# Altium integrated library NSC Switcher.IntLib: 916 symbols (part 14 of 23)
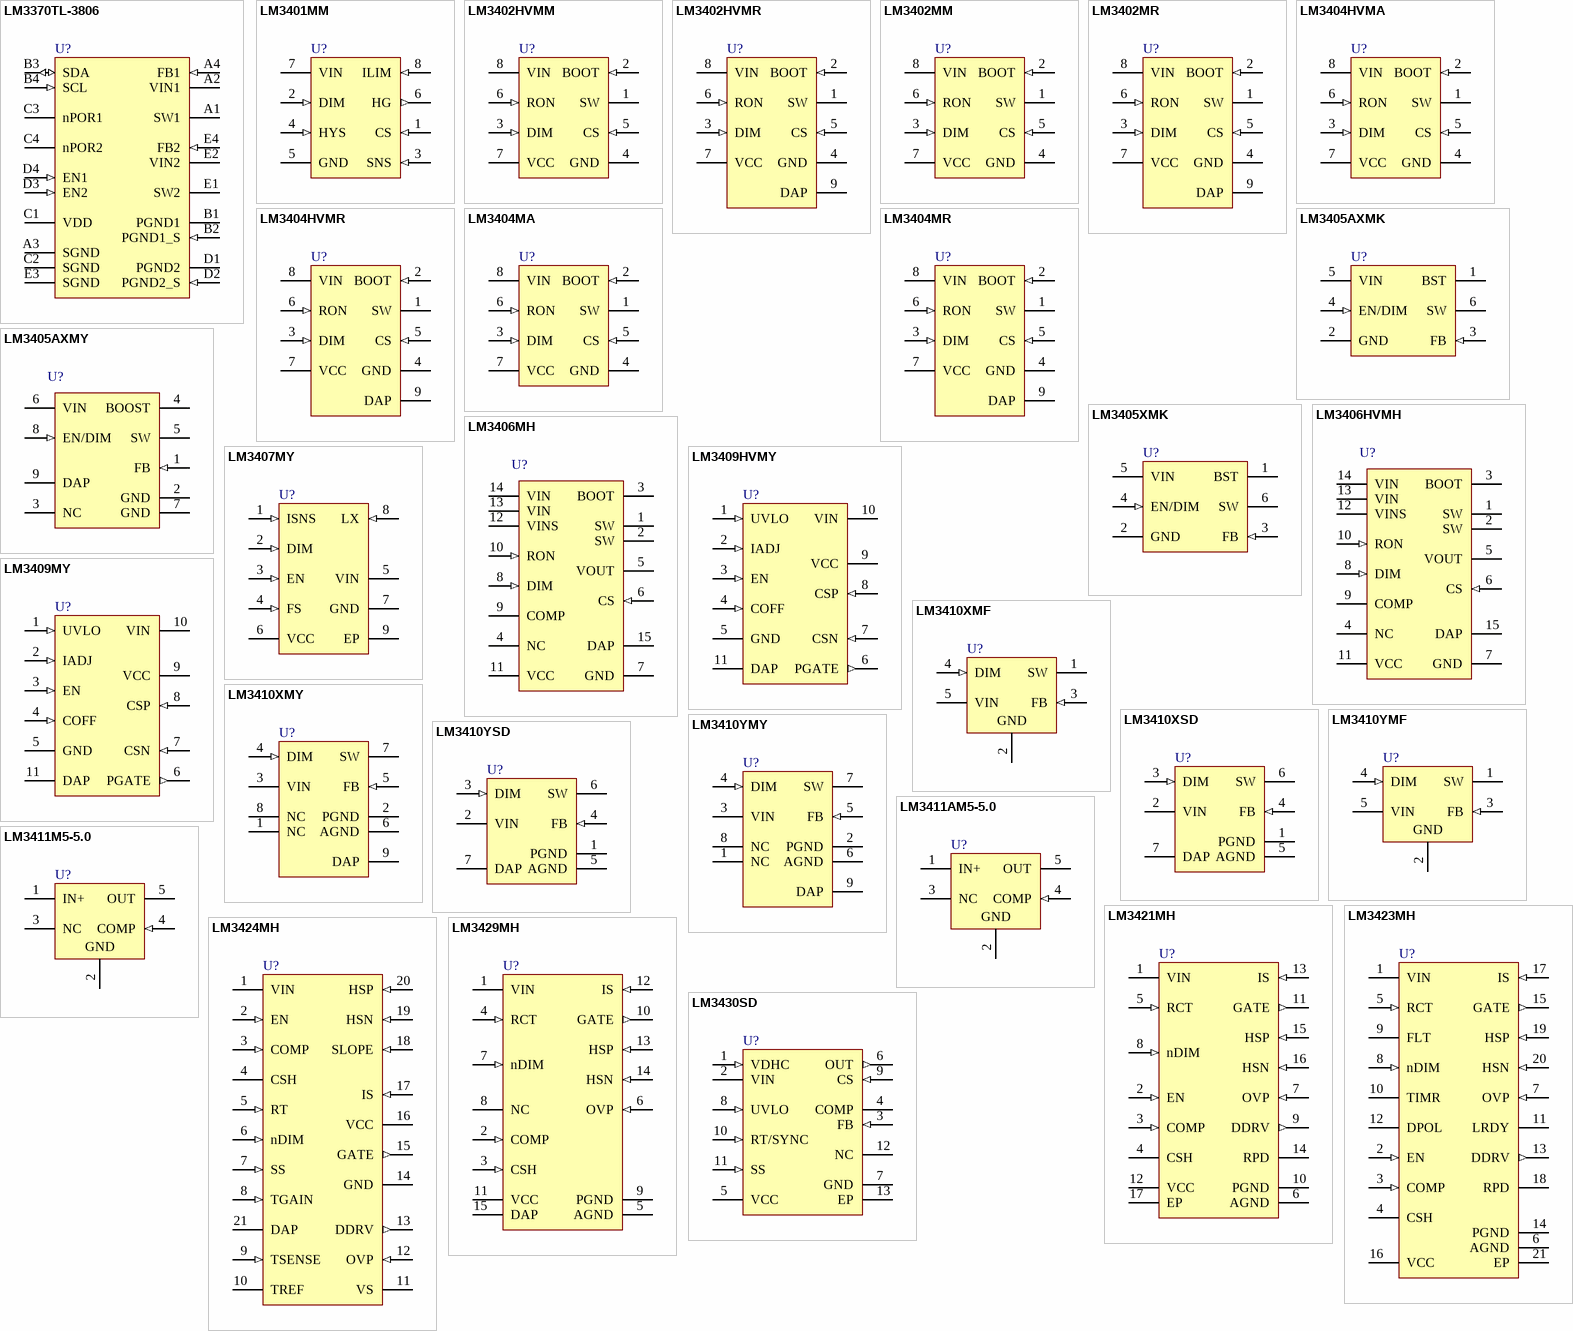
[diagram p41: symbols LM3370TL-3806 to LM3430SD]

## LM3410XMY
designator U?
PowerWise 525kHz/1.6MHz, Constant Current Boost and SEPIC LED Driver with Internal Compensation; PartNumber: LM3410XMY; Manufacturer: National Semiconductor; CompType: Switcher; PackageTopMarking: ZXTT*SSXB; Published: 4-Dec-2008; DatasheetVersion: Apr-2008; PackageVersion: revA, Nov-2003; PackageReference: MUY08A; Publisher: Altium Limited; PackageDescription: Molded Mini-SO, Exposed Pad, .118 x .118 x .034in Body, 8 Lead, .0256in Pitch; RoHS: Y; PinCount: 8; DigiKeyPartNumber: LM3410XMY-ND; Code_JEDEC: MO-187-AA; ComponentLink1Description: LM3410 Datasheet; ComponentLink1URL: http://www.national.com/ds/LM/LM3410.pdf; ComponentLink2Description: LM3410 Web Page; ComponentLink2URL: http://www.national.com/pf/LM/LM3410.html; ComponentLink3Description: MUY08A Package Drawing; ComponentLink3URL: http://www.national.com/packaging/folders/muy08a.html
footprint MUY08A_N (TSOP, 8-Leads, Body 3x3mm, Pitch 0.65mm, Exposed Pad, IPC Medium Density)
footprint MUY08A_L (TSOP, 8-Leads, Body 3x3mm, Pitch 0.65mm, Exposed Pad, IPC High Density)
footprint MUY08A_M (TSOP, 8-Leads, Body 3x3mm, Pitch 0.65mm, Exposed Pad, IPC Low Density)
pins: 1 NC, 2 PGND (power), 3 VIN (power), 4 DIM (in), 5 FB (in), 6 AGND (power), 7 SW (power), 8 NC, 9 DAP (power)

## LM3410XSD
designator U?
PowerWise 525kHz/1.6MHz, Constant Current Boost and SEPIC LED Driver with Internal Compensation; PartNumber: LM3410XSD; Manufacturer: National Semiconductor; CompType: Switcher; PackageTopMarking: ZXYTT*3410X; Published: 4-Dec-2008; DatasheetVersion: Apr-2008; PackageVersion: revA, Jul-2003; PackageReference: SDE06A; Publisher: Altium Limited; PackageDescription: LLP, Plastic, Dual, 3 x 3 x 0.8mm Body, 6 Lead, 0.95mm Pitch, No Pullback; RoHS: Y; PinCount: 6; DigiKeyPartNumber: LM3410XSDCT-ND; ComponentLink1Description: LM3410 Datasheet; ComponentLink1URL: http://www.national.com/ds/LM/LM3410.pdf; ComponentLink2Description: LM3410 Web Page; ComponentLink2URL: http://www.national.com/pf/LM/LM3410.html; ComponentLink3Description: SDE06A Package Drawing; ComponentLink3URL: http://www.national.com/packaging/folders/sde06a.html
footprint SDE06A_full (SON, 6-Leads, Body 3x3 mm, Pitch 0.95mm, Full Paste, NSC Recommended)
footprint SDE06A_quad (SON, 6-Leads, Body 3x3 mm, Pitch 0.95mm, Quad Paste, NSC Recommended)
pins: 1 PGND (power), 2 VIN (power), 3 DIM (in), 4 FB (in), 5 AGND (power), 6 SW (power), 7 DAP (power)

## LM3410YMF
designator U?
PowerWise 525kHz/1.6MHz, Constant Current Boost and SEPIC LED Driver with Internal Compensation; PartNumber: LM3410YMF; Manufacturer: National Semiconductor; CompType: Switcher; PackageTopMarking: SSZB*XTT; Published: 4-Dec-2008; DatasheetVersion: Apr-2008; PackageVersion: revD, Aug-2008; PackageReference: MF05A; Publisher: Altium Limited; PackageDescription: Molded SOT-23, .115 x .063 x .040 in Body, 5 Lead, .0375 in Pitch; RoHS: Y; PinCount: 5; DigiKeyPartNumber: LM3410YMFCT-ND; ComponentLink1Description: LM3410 Datasheet; ComponentLink1URL: http://www.national.com/ds/LM/LM3410.pdf; ComponentLink2Description: LM3410 Web Page; ComponentLink2URL: http://www.national.com/pf/LM/LM3410.html; ComponentLink3Description: MF05A Package Drawing; ComponentLink3URL: http://www.national.com/packaging/folders/mf05a.html
footprint MF05A_N (SOT23, 5-Leads, Body 2.9x1.6mm, Pitch 0.95mm, Lead Span 2.8mm, IPC Medium Density)
footprint MF05A_L (SOT23, 5-Leads, Body 2.9x1.6mm, Pitch 0.95mm, Lead Span 2.8mm, IPC High Density)
footprint MF05A_M (SOT23, 5-Leads, Body 2.9x1.6mm, Pitch 0.95mm, Lead Span 2.8mm, IPC Low Density)
pins: 1 SW (power), 2 GND (power), 3 FB (in), 4 DIM (in), 5 VIN (power)

## LM3410YMY
designator U?
PowerWise 525kHz/1.6MHz, Constant Current Boost and SEPIC LED Driver with Internal Compensation; PartNumber: LM3410YMY; Manufacturer: National Semiconductor; CompType: Switcher; PackageTopMarking: ZXTT*STAB; Published: 4-Dec-2008; DatasheetVersion: Apr-2008; PackageVersion: revA, Nov-2003; PackageReference: MUY08A; Publisher: Altium Limited; PackageDescription: Molded Mini-SO, Exposed Pad, .118 x .118 x .034in Body, 8 Lead, .0256in Pitch; RoHS: Y; PinCount: 8; DigiKeyPartNumber: LM3410YMY-ND; Code_JEDEC: MO-187-AA; ComponentLink1Description: LM3410 Datasheet; ComponentLink1URL: http://www.national.com/ds/LM/LM3410.pdf; ComponentLink2Description: LM3410 Web Page; ComponentLink2URL: http://www.national.com/pf/LM/LM3410.html; ComponentLink3Description: MUY08A Package Drawing; ComponentLink3URL: http://www.national.com/packaging/folders/muy08a.html
footprint MUY08A_N (TSOP, 8-Leads, Body 3x3mm, Pitch 0.65mm, Exposed Pad, IPC Medium Density)
footprint MUY08A_L (TSOP, 8-Leads, Body 3x3mm, Pitch 0.65mm, Exposed Pad, IPC High Density)
footprint MUY08A_M (TSOP, 8-Leads, Body 3x3mm, Pitch 0.65mm, Exposed Pad, IPC Low Density)
pins: 1 NC, 2 PGND (power), 3 VIN (power), 4 DIM (in), 5 FB (in), 6 AGND (power), 7 SW (power), 8 NC, 9 DAP (power)

## LM3410YSD
designator U?
PowerWise 525kHz/1.6MHz, Constant Current Boost and SEPIC LED Driver with Internal Compensation; PartNumber: LM3410YSD; Manufacturer: National Semiconductor; CompType: Switcher; PackageTopMarking: ZXYTT*3410Y; Published: 4-Dec-2008; DatasheetVersion: Apr-2008; PackageVersion: revA, Jul-2003; PackageReference: SDE06A; Publisher: Altium Limited; PackageDescription: LLP, Plastic, Dual, 3 x 3 x 0.8mm Body, 6 Lead, 0.95mm Pitch, No Pullback; RoHS: Y; PinCount: 6; DigiKeyPartNumber: LM3410YSDCT-ND; ComponentLink1Description: LM3410 Datasheet; ComponentLink1URL: http://www.national.com/ds/LM/LM3410.pdf; ComponentLink2Description: LM3410 Web Page; ComponentLink2URL: http://www.national.com/pf/LM/LM3410.html; ComponentLink3Description: SDE06A Package Drawing; ComponentLink3URL: http://www.national.com/packaging/folders/sde06a.html
footprint SDE06A_full (SON, 6-Leads, Body 3x3 mm, Pitch 0.95mm, Full Paste, NSC Recommended)
footprint SDE06A_quad (SON, 6-Leads, Body 3x3 mm, Pitch 0.95mm, Quad Paste, NSC Recommended)
pins: 1 PGND (power), 2 VIN (power), 3 DIM (in), 4 FB (in), 5 AGND (power), 6 SW (power), 7 DAP (power)

## LM3411AM5-5.0
designator U?
Precision Secondary Regulator/Driver; PartNumber: LM3411AM5-5.0; Manufacturer: National Semiconductor; CompType: Switcher; PackageTopMarking: D01A*XTT; Published: 4-Dec-2008; DatasheetVersion: Mar-2005; PackageVersion: revD, Aug-2008; PackageReference: MF05A; Publisher: Altium Limited; PackageDescription: Molded SOT-23, .115 x .063 x .040 in Body, 5 Lead, .0375 in Pitch; RoHS: O; PinCount: 5; DigiKeyPartNumber: LM3411AM5-5.0CT-ND; ComponentLink1Description: LM3411 Datasheet; ComponentLink1URL: http://www.national.com/ds/LM/LM3411.pdf; ComponentLink2Description: LM3411 Web Page; ComponentLink2URL: http://www.national.com/pf/LM/LM3411.html; ComponentLink3Description: MF05A Package Drawing; ComponentLink3URL: http://www.national.com/packaging/folders/mf05a.html
footprint MF05A_N (SOT23, 5-Leads, Body 2.9x1.6mm, Pitch 0.95mm, Lead Span 2.8mm, IPC Medium Density)
footprint MF05A_L (SOT23, 5-Leads, Body 2.9x1.6mm, Pitch 0.95mm, Lead Span 2.8mm, IPC High Density)
footprint MF05A_M (SOT23, 5-Leads, Body 2.9x1.6mm, Pitch 0.95mm, Lead Span 2.8mm, IPC Low Density)
pins: 1 IN+ (power), 2 GND (power), 3 NC, 4 COMP (in), 5 OUT (power)

## LM3411M5-5.0
designator U?
Precision Secondary Regulator/Driver; PartNumber: LM3411M5-5.0; Manufacturer: National Semiconductor; CompType: Switcher; PackageTopMarking: D01B*XTT; Published: 4-Dec-2008; DatasheetVersion: Mar-2005; PackageVersion: revD, Aug-2008; PackageReference: MF05A; Publisher: Altium Limited; PackageDescription: Molded SOT-23, .115 x .063 x .040 in Body, 5 Lead, .0375 in Pitch; RoHS: O; PinCount: 5; DigiKeyPartNumber: LM3411M5-5.0CT-ND; ComponentLink1Description: LM3411 Datasheet; ComponentLink1URL: http://www.national.com/ds/LM/LM3411.pdf; ComponentLink2Description: LM3411 Web Page; ComponentLink2URL: http://www.national.com/pf/LM/LM3411.html; ComponentLink3Description: MF05A Package Drawing; ComponentLink3URL: http://www.national.com/packaging/folders/mf05a.html
footprint MF05A_N (SOT23, 5-Leads, Body 2.9x1.6mm, Pitch 0.95mm, Lead Span 2.8mm, IPC Medium Density)
footprint MF05A_L (SOT23, 5-Leads, Body 2.9x1.6mm, Pitch 0.95mm, Lead Span 2.8mm, IPC High Density)
footprint MF05A_M (SOT23, 5-Leads, Body 2.9x1.6mm, Pitch 0.95mm, Lead Span 2.8mm, IPC Low Density)
pins: 1 IN+ (power), 2 GND (power), 3 NC, 4 COMP (in), 5 OUT (power)

## LM3421MH
designator U?
N-Channel Controllers for Constant Current LED Drivers; PartNumber: LM3421MH; Manufacturer: National Semiconductor; CompType: Switcher; PackageTopMarking: NSUZXYTT*LM3421*MH; Published: 4-Dec-2008; DatasheetVersion: Jul-2008; PackageVersion: revA, Apr-2003; PackageReference: MXA16A; Publisher: Altium Limited; PackageDescription: Molded TSSOP, Jedec, Exposed Pad, 5.0 x 4.4 x 0.9mm Body,16 Lead, 0.65mm Pitch; RoHS: Y; PinCount: 16; DigiKeyPartNumber: LM3421MH-ND; Code_JEDEC: MO-153-ABT; ComponentLink1Description: LM3421 Datasheet; ComponentLink1URL: http://www.national.com/ds/LM/LM3421.pdf; ComponentLink2Description: LM3421 Web Page; ComponentLink2URL: http://www.national.com/pf/LM/LM3421.html; ComponentLink3Description: MXA16A Package Drawing; ComponentLink3URL: http://www.national.com/packaging/folders/mxa16a.html
footprint MXA16A_N (TSOP, 16-Leads, Body 5x4.4mm, Pitch 0.65mm, Exposed Pad, IPC Medium Density)
footprint MXA16A_L (TSOP, 16-Leads, Body 5x4.4mm, Pitch 0.65mm, Exposed Pad, IPC High Density)
footprint MXA16A_M (TSOP, 16-Leads, Body 5x4.4mm, Pitch 0.65mm, Exposed Pad, IPC Low Density)
pins: 1 VIN (power), 2 EN (in), 3 COMP (in), 4 CSH, 5 RCT (in), 6 AGND (power), 7 OVP (in), 8 nDIM (in), 9 DDRV (out), 10 PGND (power), 11 GATE (out), 12 VCC (power), 13 IS (in), 14 RPD (oc), 15 HSP (in), 16 HSN (in), 17 EP (power)

## LM3423MH
designator U?
N-Channel Controllers for Constant Current LED Drivers; PartNumber: LM3423MH; Manufacturer: National Semiconductor; CompType: Switcher; PackageTopMarking: NSUZXYTT*LM3423*MH; Published: 4-Dec-2008; DatasheetVersion: Jul-2008; PackageVersion: revC, Jul-2006; PackageReference: MXA20A; Publisher: Altium Limited; PackageDescription: Molded TSSOP, Jedec, 6.5 x 4.4 x 0.9mm Body, 20 Lead, 0.65mm Pitch, Exposed Pad; RoHS: Y; PinCount: 20; DigiKeyPartNumber: LM3423MH-ND; Code_JEDEC: MO-153-ACT; ComponentLink1Description: LM3423 Datasheet; ComponentLink1URL: http://www.national.com/ds/LM/LM3423.pdf; ComponentLink2Description: LM3423 Web Page; ComponentLink2URL: http://www.national.com/pf/LM/LM3423.html; ComponentLink3Description: MXA20A Package Drawing; ComponentLink3URL: http://www.national.com/packaging/folders/mxa20a.html
footprint MXA20A_N (TSOP, 20-Leads, Body 6.5x4.4mm, Pitch 0.65mm, Exposed Pad, IPC Medium Density)
footprint MXA20A_L (TSOP, 20-Leads, Body 6.5x4.4mm, Pitch 0.65mm, Exposed Pad, IPC High Density)
footprint MXA20A_M (TSOP, 20-Leads, Body 6.5x4.4mm, Pitch 0.65mm, Exposed Pad, IPC Low Density)
pins: 1 VIN (power), 2 EN (in), 3 COMP (in), 4 CSH, 5 RCT (in), 6 AGND (power), 7 OVP (in), 8 nDIM (in), 9 FLT (oc), 10 TIMR, 11 LRDY (oc), 12 DPOL, 13 DDRV (out), 14 PGND (power), 15 GATE (out), 16 VCC (power), 17 IS (in), 18 RPD (oc), 19 HSP (in), 20 HSN (in), 21 EP (power)

## LM3424MH
designator U?
Constant Current N-Channel Controller with Thermal Foldback for Driving LEDs; PartNumber: LM3424MH; Manufacturer: National Semiconductor; CompType: Switcher; PackageTopMarking: NSUZXYTT*LM3424*MH; PowerWise: Y; Published: 9-Oct-2009; DatasheetVersion: Aug-2009; PackageVersion: revC, Jul-2006; PackageReference: MXA20A; Publisher: Altium Limited; PackageDescription: Molded TSSOP, Jedec, 6.5 x 4.4 x 0.9mm Body, 20 Lead, 0.65mm Pitch, Exposed Pad; RoHS: Y; PinCount: 20; DigiKeyPartNumber: LM3424MH-ND; Code_JEDEC: MO-153-ACT; ComponentLink1Description: LM3424 Datasheet; ComponentLink1URL: http://www.national.com/ds/LM/LM3424.pdf; ComponentLink2Description: LM3424 Web Page; ComponentLink2URL: http://www.national.com/pf/LM/LM3424.html; ComponentLink3Description: MXA20A Package Page; ComponentLink3URL: http://www.national.com/packaging/folders/mxa20a.html
footprint MXA20A_N (TSOP, 20-Leads, Body 6.5x4.4mm, Pitch 0.65mm, Exposed Pad, IPC Medium Density)
footprint MXA20A_L (TSOP, 20-Leads, Body 6.5x4.4mm, Pitch 0.65mm, Exposed Pad, IPC High Density)
footprint MXA20A_M (TSOP, 20-Leads, Body 6.5x4.4mm, Pitch 0.65mm, Exposed Pad, IPC Low Density)
pins: 1 VIN (power), 2 EN (in), 3 COMP (in), 4 CSH, 5 RT (in), 6 nDIM (in), 7 SS (in), 8 TGAIN (in), 9 TSENSE (in), 10 TREF, 11 VS (power), 12 OVP (in), 13 DDRV (out), 14 GND (power), 15 GATE (out), 16 VCC (power), 17 IS (in), 18 SLOPE (in), 19 HSN (in), 20 HSP (in), 21 DAP (power)

## LM3429MH
designator U?
N-Channel Controller for Constant Current LED Drivers; PartNumber: LM3429MH; Manufacturer: National Semiconductor; CompType: Switcher; PackageTopMarking: NSUZXYTT*LM3429*MH; PowerWise: Y; Published: 9-Oct-2009; DatasheetVersion: Aug-2009; PackageVersion: revA, Feb-2003; PackageReference: MXA14A; Publisher: Altium Limited; PackageDescription: Molded TSSOP, JEDEC, Exposed Pad, 5.0 x 4.4 x 0.9mm Body, 14 Lead, 0.65mm Pitch; RoHS: Y; PinCount: 14; DigiKeyPartNumber: LM3429MH-ND; Code_JEDEC: MO-153-ABT-1; ComponentLink1Description: LM3429 Datasheet; ComponentLink1URL: http://www.national.com/ds/LM/LM3429.pdf; ComponentLink2Description: LM3429 Web Page; ComponentLink2URL: http://www.national.com/pf/LM/LM3429.html; ComponentLink3Description: MXA14A Package Page; ComponentLink3URL: http://www.national.com/packaging/folders/mxa14a.html
footprint MXA14A_N (TSOP, 14-Leads, Body 5x4.4mm, Pitch 0.65mm, Exposed Pad, IPC Medium Density)
footprint MXA14A_L (TSOP, 14-Leads, Body 5x4.4mm, Pitch 0.65mm, Exposed Pad, IPC High Density)
footprint MXA14A_M (TSOP, 14-Leads, Body 5x4.4mm, Pitch 0.65mm, Exposed Pad, IPC Low Density)
pins: 1 VIN (power), 2 COMP (in), 3 CSH (in), 4 RCT (in), 5 AGND (power), 6 OVP (in), 7 nDIM (in), 8 NC, 9 PGND (power), 10 GATE (out), 11 VCC (power), 12 IS (in), 13 HSP (in), 14 HSN (in), 15 DAP (power)

## LM3430SD
designator U?
Boost Controller for LED Backlighting; PartNumber: LM3430SD; Manufacturer: National Semiconductor; CompType: Switcher; PackageTopMarking: ZXYTT*L3430; Published: 4-Dec-2008; DatasheetVersion: Jan-2007; PackageVersion: revB, Jul-2008; PackageReference: SDF12A; Publisher: Altium Limited; PackageDescription: LLP, Plastic, Dual, 3 x 3 x 0.8mm Body, 12 Lead, 0.4mm Pitch, No Pullback; RoHS: O; PinCount: 12; DigiKeyPartNumber: LM3430SDCT-ND; ComponentLink1Description: LM3430 Datasheet; ComponentLink1URL: http://www.national.com/ds/LM/LM3430.pdf; ComponentLink2Description: LM3430 Web Page; ComponentLink2URL: http://www.national.com/pf/LM/LM3430.html; ComponentLink3Description: SDF12A Package Drawing; ComponentLink3URL: http://www.national.com/packaging/folders/sdf12a.html
footprint SDF12A (SON, 12-Leads, Body 3x3mm, Pitch 0.4mm, NSC Recommended)
pins: 1 VDHC (in), 2 VIN (power), 3 FB (in), 4 COMP, 5 VCC (power), 6 OUT (out), 7 GND (power), 8 UVLO (in), 9 CS (in), 10 RT/SYNC (in), 11 SS (in), 12 NC, 13 EP (power)

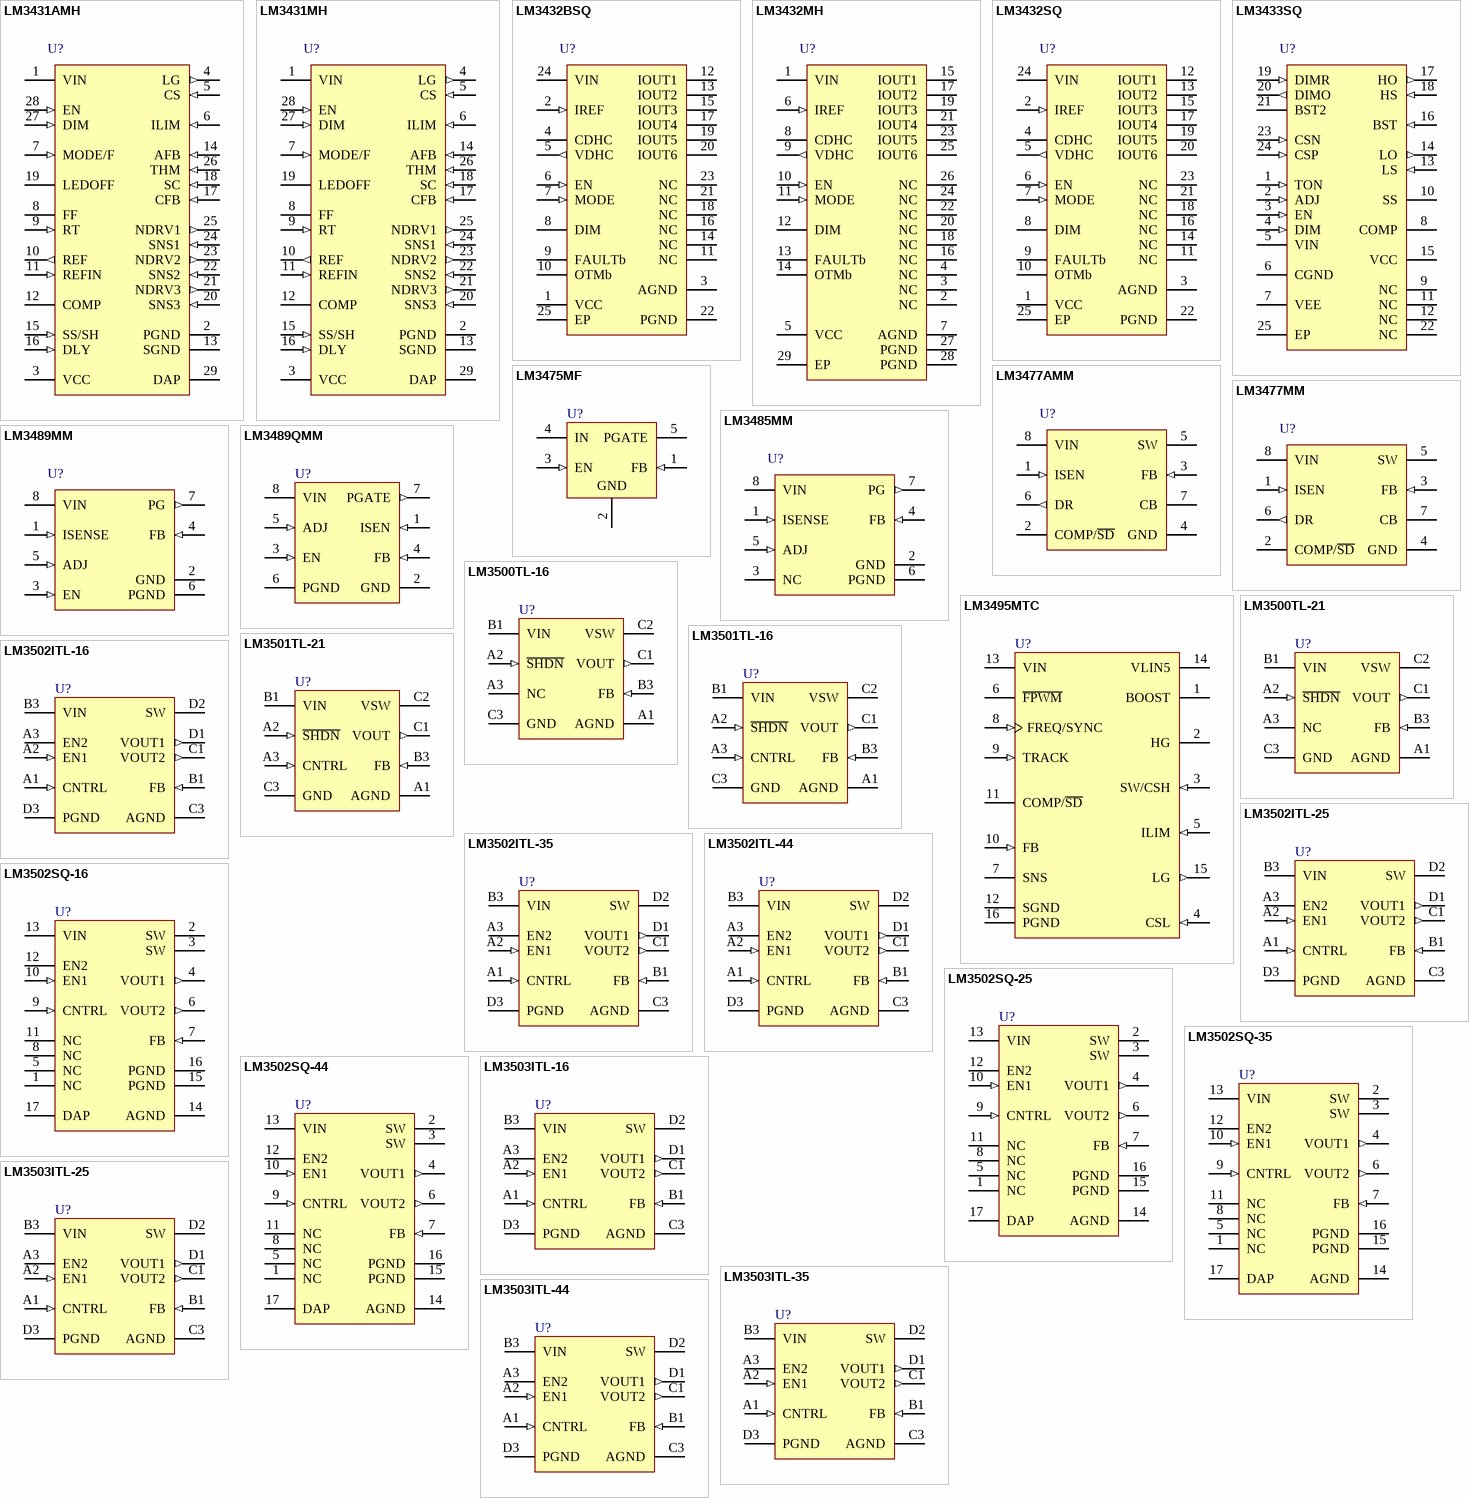
[diagram p16: symbols LM3431AMH to LM3503ITL-44]

## LM3431AMH
designator U?
3-Channel Constant Current LED Driver with Integrated Boost Controller; PartNumber: LM3431AMH; Manufacturer: National Semiconductor; CompType: Switcher; PackageTopMarking: NSUZXYTT*LM3431AMH; Published: 4-Dec-2008; DatasheetVersion: Jan-2008; PackageVersion: revD, Oct-2003; PackageReference: MXA28A; Publisher: Altium Limited; PackageDescription: Molded TSSOP, Jedec, 9.7 x 4.4 x 0.9mm Body, 28 Lead, 0.65mm Pitch, Exposed Pad; RoHS: Y; PinCount: 28; DigiKeyPartNumber: LM3431AMH-ND; Code_JEDEC: MO-153-AET; ComponentLink1Description: LM3431 Datasheet; ComponentLink1URL: http://www.national.com/ds/LM/LM3431.pdf; ComponentLink2Description: LM3431 Web Page; ComponentLink2URL: http://www.national.com/pf/LM/LM3431.html; ComponentLink3Description: MXA28A Package Drawing; ComponentLink3URL: http://www.national.com/packaging/folders/mxa28a.html
footprint MXA28A_N (TSOP, 28-Leads, Body 9.7x4.4mm, Pitch 0.65mm, Exposed Pad, IPC Medium Density)
footprint MXA28A_L (TSOP, 28-Leads, Body 9.7x4.4mm, Pitch 0.65mm, Exposed Pad, IPC High Density)
footprint MXA28A_M (TSOP, 28-Leads, Body 9.7x4.4mm, Pitch 0.65mm, Exposed Pad, IPC Low Density)
pins: 1 VIN (power), 2 PGND (power), 3 VCC (power), 4 LG (out), 5 CS (in), 6 ILIM (in), 7 MODE/F (in), 8 FF, 9 RT (in), 10 REF (out), 11 REFIN (in), 12 COMP, 13 SGND (power), 14 AFB (in), 15 SS/SH (in), 16 DLY (in), 17 CFB (in), 18 SC (in), 19 LEDOFF, 20 SNS3 (in), 21 NDRV3 (out), 22 SNS2 (in), 23 NDRV2 (out), 24 SNS1 (in), 25 NDRV1 (out), 26 THM (in), 27 DIM (in), 28 EN (in), 29 DAP (power)

## LM3431MH
designator U?
3-Channel Constant Current LED Driver with Integrated Boost Controller; PartNumber: LM3431MH; Manufacturer: National Semiconductor; CompType: Switcher; PackageTopMarking: NSUZXYTT*LM3431MH; Published: 4-Dec-2008; DatasheetVersion: Jan-2008; PackageVersion: revD, Oct-2003; PackageReference: MXA28A; Publisher: Altium Limited; PackageDescription: Molded TSSOP, Jedec, 9.7 x 4.4 x 0.9mm Body, 28 Lead, 0.65mm Pitch, Exposed Pad; RoHS: Y; PinCount: 28; DigiKeyPartNumber: LM3431MH-ND; Code_JEDEC: MO-153-AET; ComponentLink1Description: LM3431 Datasheet; ComponentLink1URL: http://www.national.com/ds/LM/LM3431.pdf; ComponentLink2Description: LM3431 Web Page; ComponentLink2URL: http://www.national.com/pf/LM/LM3431.html; ComponentLink3Description: MXA28A Package Drawing; ComponentLink3URL: http://www.national.com/packaging/folders/mxa28a.html
footprint MXA28A_N (TSOP, 28-Leads, Body 9.7x4.4mm, Pitch 0.65mm, Exposed Pad, IPC Medium Density)
footprint MXA28A_L (TSOP, 28-Leads, Body 9.7x4.4mm, Pitch 0.65mm, Exposed Pad, IPC High Density)
footprint MXA28A_M (TSOP, 28-Leads, Body 9.7x4.4mm, Pitch 0.65mm, Exposed Pad, IPC Low Density)
pins: 1 VIN (power), 2 PGND (power), 3 VCC (power), 4 LG (out), 5 CS (in), 6 ILIM (in), 7 MODE/F (in), 8 FF, 9 RT (in), 10 REF (out), 11 REFIN (in), 12 COMP, 13 SGND (power), 14 AFB (in), 15 SS/SH (in), 16 DLY (in), 17 CFB (in), 18 SC (in), 19 LEDOFF, 20 SNS3 (in), 21 NDRV3 (out), 22 SNS2 (in), 23 NDRV2 (out), 24 SNS1 (in), 25 NDRV1 (out), 26 THM (in), 27 DIM (in), 28 EN (in), 29 DAP (power)

## LM3432BSQ
designator U?
6-Channel Current Regulator for LED Backlight Application; PartNumber: LM3432BSQ; Manufacturer: National Semiconductor; CompType: Switcher; PackageTopMarking: NS*UZXYTT*3432BSQ; Published: 4-Dec-2008; DatasheetVersion: May-2008; PackageVersion: revA, Oct-2003; PackageReference: SQA24B; Publisher: Altium Limited; PackageDescription: LLP, Plastic, Quad, 5 x 4 x 0.8mm Body, 24 Lead, 0.5mm Pitch, No Pullback; RoHS: Y; PinCount: 24; Code_JEDEC: MO-220-WGHD-1; ComponentLink1Description: LM3432B Datasheet; ComponentLink1URL: http://www.national.com/ds/LM/LM3432B.pdf; ComponentLink2Description: LM3432B Web Page; ComponentLink2URL: http://www.national.com/pf/LM/LM3432B.html; ComponentLink3Description: SQA24B Package Drawing; ComponentLink3URL: http://www.national.com/packaging/folders/sqa24b.html
footprint SQA24B (QFN, 24-Leads, Body 5x4mm, Pitch 0.5mm, NSC Recommended)
pins: 1 VCC (power), 2 IREF (in), 3 AGND (power), 4 CDHC, 5 VDHC (out), 6 EN (in), 7 MODE (in), 8 DIM, 9 FAULTb (oc), 10 OTMb (oc), 11 NC, 12 IOUT1 (oc), 13 IOUT2 (oc), 14 NC, 15 IOUT3 (oc), 16 NC, 17 IOUT4 (oc), 18 NC, 19 IOUT5 (oc), 20 IOUT6 (oc), 21 NC, 22 PGND (power), 23 NC, 24 VIN (power), 25 EP (power)

## LM3432MH
designator U?
6-Channel Current Regulator for LED Backlight Application; PartNumber: LM3432MH; Manufacturer: National Semiconductor; CompType: Switcher; PackageTopMarking: NSUZXYTT*LM3432*MH; Published: 4-Dec-2008; DatasheetVersion: May-2008; PackageVersion: revD, Oct-2003; PackageReference: MXA28A; Publisher: Altium Limited; PackageDescription: Molded TSSOP, Jedec, 9.7 x 4.4 x 0.9mm Body, 28 Lead, 0.65mm Pitch, Exposed Pad; RoHS: Y; PinCount: 28; DigiKeyPartNumber: LM3432MH-ND; Code_JEDEC: MO-153-AET; ComponentLink1Description: LM3432 Datasheet; ComponentLink1URL: http://www.national.com/ds/LM/LM3432.pdf; ComponentLink2Description: LM3432 Web Page; ComponentLink2URL: http://www.national.com/pf/LM/LM3432.html; ComponentLink3Description: MXA28A Package Drawing; ComponentLink3URL: http://www.national.com/packaging/folders/mxa28a.html
footprint MXA28A_N (TSOP, 28-Leads, Body 9.7x4.4mm, Pitch 0.65mm, Exposed Pad, IPC Medium Density)
footprint MXA28A_L (TSOP, 28-Leads, Body 9.7x4.4mm, Pitch 0.65mm, Exposed Pad, IPC High Density)
footprint MXA28A_M (TSOP, 28-Leads, Body 9.7x4.4mm, Pitch 0.65mm, Exposed Pad, IPC Low Density)
pins: 1 VIN (power), 2 NC, 3 NC, 4 NC, 5 VCC (power), 6 IREF (in), 7 AGND (power), 8 CDHC, 9 VDHC (out), 10 EN (in), 11 MODE (in), 12 DIM, 13 FAULTb (oc), 14 OTMb (oc), 15 IOUT1 (oc), 16 NC, 17 IOUT2 (oc), 18 NC, 19 IOUT3 (oc), 20 NC, 21 IOUT4 (oc), 22 NC, 23 IOUT5 (oc), 24 NC, 25 IOUT6 (oc), 26 NC, 27 PGND (power), 28 PGND (power), 29 EP (power)

## LM3432SQ
designator U?
6-Channel Current Regulator for LED Backlight Application; PartNumber: LM3432SQ; Manufacturer: National Semiconductor; CompType: Switcher; PackageTopMarking: NS*UZXYTT*L3432SQ; Published: 4-Dec-2008; DatasheetVersion: May-2008; PackageVersion: revA, Oct-2003; PackageReference: SQA24B; Publisher: Altium Limited; PackageDescription: LLP, Plastic, Quad, 5 x 4 x 0.8mm Body, 24 Lead, 0.5mm Pitch, No Pullback; RoHS: Y; PinCount: 24; DigiKeyPartNumber: LM3432SQCT-ND; Code_JEDEC: MO-220-WGHD-1; ComponentLink1Description: LM3432 Datasheet; ComponentLink1URL: http://www.national.com/ds/LM/LM3432.pdf; ComponentLink2Description: LM3432 Web Page; ComponentLink2URL: http://www.national.com/pf/LM/LM3432.html; ComponentLink3Description: SQA24B Package Drawing; ComponentLink3URL: http://www.national.com/packaging/folders/sqa24b.html
footprint SQA24B (QFN, 24-Leads, Body 5x4mm, Pitch 0.5mm, NSC Recommended)
pins: 1 VCC (power), 2 IREF (in), 3 AGND (power), 4 CDHC, 5 VDHC (out), 6 EN (in), 7 MODE (in), 8 DIM, 9 FAULTb (oc), 10 OTMb (oc), 11 NC, 12 IOUT1 (oc), 13 IOUT2 (oc), 14 NC, 15 IOUT3 (oc), 16 NC, 17 IOUT4 (oc), 18 NC, 19 IOUT5 (oc), 20 IOUT6 (oc), 21 NC, 22 PGND (power), 23 NC, 24 VIN (power), 25 EP (power)

## LM3433SQ
designator U?
Common Anode Capable High Brightness LED Driver with High Frequency Dimming; PartNumber: LM3433SQ; Manufacturer: National Semiconductor; CompType: Switcher; PackageTopMarking: NS*UZXYTT*L3433SQ; Published: 4-Dec-2008; DatasheetVersion: Mar-2008; PackageVersion: revB, Aug-2003; PackageReference: SQA24A; Publisher: Altium Limited; PackageDescription: LLP, Plastic, Quad, 4 x 4 x 0.8mm Body, 24 Lead, 0.5mm Pitch, No Pullback; RoHS: Y; PinCount: 24; DigiKeyPartNumber: LM3433SQCT-ND; Code_JEDEC: MO-220-WGGD-6; ComponentLink1Description: LM3433 Datasheet; ComponentLink1URL: http://www.national.com/ds/LM/LM3433.pdf; ComponentLink2Description: LM3433 Web Page; ComponentLink2URL: http://www.national.com/pf/LM/LM3433.html; ComponentLink3Description: SQA24A Package Drawing; ComponentLink3URL: http://www.national.com/packaging/folders/sqa24a.html
footprint SQA24A (QFN, 24-Leads, Body 4x4mm, Pitch 0.5mm, NSC Recommended)
pins: 1 TON (in), 2 ADJ (in), 3 EN (in), 4 DIM (in), 5 VIN (power), 6 CGND (power), 7 VEE (power), 8 COMP, 9 NC, 10 SS, 11 NC, 12 NC, 13 LS (in), 14 LO (out), 15 VCC (power), 16 BST (in), 17 HO (out), 18 HS (in), 19 DIMR (in), 20 DIMO (out), 21 BST2, 22 NC, 23 CSN (in), 24 CSP (in), 25 EP (power)

## LM3475MF
designator U?
Hysteretic PFET Buck Controller; PartNumber: LM3475MF; Manufacturer: National Semiconductor; CompType: Switcher; PackageTopMarking: S65B*XTT; Published: 4-Dec-2008; DatasheetVersion: Jan-2005; PackageVersion: revD, Aug-2008; PackageReference: MF05A; Publisher: Altium Limited; PackageDescription: Molded SOT-23, .115 x .063 x .040 in Body, 5 Lead, .0375 in Pitch; RoHS: O; PinCount: 5; DigiKeyPartNumber: LM3475MFCT-ND; ComponentLink1Description: LM3475 Datasheet; ComponentLink1URL: http://www.national.com/ds/LM/LM3475.pdf; ComponentLink2Description: LM3475 Web Page; ComponentLink2URL: http://www.national.com/pf/LM/LM3475.html; ComponentLink3Description: MF05A Package Drawing; ComponentLink3URL: http://www.national.com/packaging/folders/mf05a.html
footprint MF05A_N (SOT23, 5-Leads, Body 2.9x1.6mm, Pitch 0.95mm, Lead Span 2.8mm, IPC Medium Density)
footprint MF05A_L (SOT23, 5-Leads, Body 2.9x1.6mm, Pitch 0.95mm, Lead Span 2.8mm, IPC High Density)
footprint MF05A_M (SOT23, 5-Leads, Body 2.9x1.6mm, Pitch 0.95mm, Lead Span 2.8mm, IPC Low Density)
pins: 1 FB (in), 2 GND (power), 3 EN (in), 4 IN (power), 5 PGATE (power)

## LM3477AMM
designator U?
High Efficiency High-Side N-Channel Controller for Switching Regulator; PartNumber: LM3477AMM; Manufacturer: National Semiconductor; CompType: Switcher; PackageTopMarking: ZXTT*S13A; PowerWise: N; Published: 4-Dec-2008; DatasheetVersion: Jul-2004; PackageVersion: revF, Apr-2008; PackageReference: MUA08A; Publisher: Altium Limited; PackageDescription: MINI SOIC, .118 x .118 x .034in, 8 Lead, .0256in Pitch; RoHS: O; PinCount: 8; DigiKeyPartNumber: LM3477AMMCT-ND; Code_JEDEC: MO-187-AA; ComponentLink1Description: LM3477 Datasheet; ComponentLink1URL: http://www.national.com/ds/LM/LM3477.pdf; ComponentLink2Description: LM3477 Web Page; ComponentLink2URL: http://www.national.com/pf/LM/LM3477.html; ComponentLink3Description: MUA08A Package Page; ComponentLink3URL: http://www.national.com/packaging/folders/mua08a.html
footprint MUA08A_N (TSOP, 8-Leads, Body 3x3mm, Pitch 0.65mm, IPC Medium Density)
footprint MUA08A_L (TSOP, 8-Leads, Body 3x3mm, Pitch 0.65mm, IPC High Density)
footprint MUA08A_M (TSOP, 8-Leads, Body 3x3mm, Pitch 0.65mm, IPC Low Density)
pins: 1 ISEN (in), 2 COMP/~{SD}, 3 FB (in), 4 GND (power), 5 SW (power), 6 DR (out), 7 CB, 8 VIN (power)

## LM3477MM
designator U?
High Efficiency High-Side N-Channel Controller for Switching Regulator; PartNumber: LM3477MM; Manufacturer: National Semiconductor; CompType: Switcher; PackageTopMarking: ZXTT*S13B; PowerWise: N; Published: 4-Dec-2008; DatasheetVersion: Jul-2004; PackageVersion: revF, Apr-2008; PackageReference: MUA08A; Publisher: Altium Limited; PackageDescription: MINI SOIC, .118 x .118 x .034in, 8 Lead, .0256in Pitch; RoHS: O; PinCount: 8; DigiKeyPartNumber: LM3477MMCT-ND; Code_JEDEC: MO-187-AA; ComponentLink1Description: LM3477 Datasheet; ComponentLink1URL: http://www.national.com/ds/LM/LM3477.pdf; ComponentLink2Description: LM3477 Web Page; ComponentLink2URL: http://www.national.com/pf/LM/LM3477.html; ComponentLink3Description: MUA08A Package Page; ComponentLink3URL: http://www.national.com/packaging/folders/mua08a.html
footprint MUA08A_N (TSOP, 8-Leads, Body 3x3mm, Pitch 0.65mm, IPC Medium Density)
footprint MUA08A_L (TSOP, 8-Leads, Body 3x3mm, Pitch 0.65mm, IPC High Density)
footprint MUA08A_M (TSOP, 8-Leads, Body 3x3mm, Pitch 0.65mm, IPC Low Density)
pins: 1 ISEN (in), 2 COMP/~{SD}, 3 FB (in), 4 GND (power), 5 SW (power), 6 DR (out), 7 CB, 8 VIN (power)

## LM3485MM
designator U?
Hysteretic PFET Buck Controller; PartNumber: LM3485MM; Manufacturer: National Semiconductor; CompType: Switcher; PackageTopMarking: ZXTT*S29B; PowerWise: N; Published: 4-Dec-2008; DatasheetVersion: Sep-2004; PackageVersion: revF, Apr-2008; PackageReference: MUA08A; Publisher: Altium Limited; PackageDescription: MINI SOIC, .118 x .118 x .034in, 8 Lead, .0256in Pitch; RoHS: O; PinCount: 8; DigiKeyPartNumber: LM3485MMCT-ND; Code_JEDEC: MO-187-AA; ComponentLink1Description: LM3485 Datasheet; ComponentLink1URL: http://www.national.com/ds/LM/LM3485.pdf; ComponentLink2Description: LM3485 Web Page; ComponentLink2URL: http://www.national.com/pf/LM/LM3485.html; ComponentLink3Description: MUA08A Package Page; ComponentLink3URL: http://www.national.com/packaging/folders/mua08a.html
footprint MUA08A_N (TSOP, 8-Leads, Body 3x3mm, Pitch 0.65mm, IPC Medium Density)
footprint MUA08A_L (TSOP, 8-Leads, Body 3x3mm, Pitch 0.65mm, IPC High Density)
footprint MUA08A_M (TSOP, 8-Leads, Body 3x3mm, Pitch 0.65mm, IPC Low Density)
pins: 1 ISENSE (in), 2 GND (power), 3 NC, 4 FB (in), 5 ADJ (in), 6 PGND (power), 7 PG (out), 8 VIN (power)

## LM3489MM
designator U?
Hysteretic PFET Buck Controller with Enable Pin; PartNumber: LM3489MM; Manufacturer: National Semiconductor; CompType: Switcher; PackageTopMarking: ZXTT*SKSB; PowerWise: N; Published: 4-Dec-2008; DatasheetVersion: Jun-2008; PackageVersion: revF, Apr-2008; PackageReference: MUA08A; Publisher: Altium Limited; PackageDescription: MINI SOIC, .118 x .118 x .034in, 8 Lead, .0256in Pitch; RoHS: Y; PinCount: 8; DigiKeyPartNumber: LM3489MMCT-ND; Code_JEDEC: MO-187-AA; ComponentLink1Description: LM3489 Datasheet; ComponentLink1URL: http://www.national.com/ds/LM/LM3489.pdf; ComponentLink2Description: LM3489 Web Page; ComponentLink2URL: http://www.national.com/pf/LM/LM3489.html; ComponentLink3Description: MUA08A Package Page; ComponentLink3URL: http://www.national.com/packaging/folders/mua08a.html
footprint MUA08A_N (TSOP, 8-Leads, Body 3x3mm, Pitch 0.65mm, IPC Medium Density)
footprint MUA08A_L (TSOP, 8-Leads, Body 3x3mm, Pitch 0.65mm, IPC High Density)
footprint MUA08A_M (TSOP, 8-Leads, Body 3x3mm, Pitch 0.65mm, IPC Low Density)
pins: 1 ISENSE (in), 2 GND (power), 3 EN (in), 4 FB (in), 5 ADJ (in), 6 PGND (power), 7 PG (out), 8 VIN (power)

## LM3489QMM
designator U?
Hysteretic PFET Buck Controller with Enable Pin; PartNumber: LM3489QMM; Manufacturer: National Semiconductor; CompType: Switcher; PackageTopMarking: ZXTT*STEB; Published: 4-Dec-2008; DatasheetVersion: Jun-2008; PackageVersion: revF, Apr-2008; PackageReference: MUA08A; Publisher: Altium Limited; PackageDescription: MINI SOIC, .118 x .118 x .034in, 8 Lead, .0256in Pitch; RoHS: Y; PinCount: 8; Code_JEDEC: MO-187-AA; ComponentLink1Description: LM3489 Datasheet; ComponentLink1URL: http://www.national.com/ds/LM/LM3489.pdf; ComponentLink2Description: LM3489 Web Page; ComponentLink2URL: http://www.national.com/pf/LM/LM3489.html; ComponentLink3Description: MUA08A Package Drawing; ComponentLink3URL: http://www.national.com/packaging/folders/mua08a.html
footprint MUA08A_N (TSOP, 8-Leads, Body 3x3mm, Pitch 0.65mm, IPC Medium Density)
footprint MUA08A_L (TSOP, 8-Leads, Body 3x3mm, Pitch 0.65mm, IPC High Density)
footprint MUA08A_M (TSOP, 8-Leads, Body 3x3mm, Pitch 0.65mm, IPC Low Density)
pins: 1 ISEN (in), 2 GND (power), 3 EN (in), 4 FB (in), 5 ADJ (in), 6 PGND (power), 7 PGATE (out), 8 VIN (power)

## LM3495MTC
designator U?
Emulated Peak Current Mode Buck Controller for Low Output Voltage; PartNumber: LM3495MTC; Manufacturer: National Semiconductor; CompType: Switcher; PackageTopMarking: NSUZXYTT*LM3495*MTC; PowerWise: Y; Published: 4-Dec-2008; DatasheetVersion: Nov-2007; PackageVersion: revD, Jun-2003; PackageReference: MTC16; Publisher: Altium Limited; PackageDescription: Molded TSSOP, Jedec, 5 x 4.4 x 0.9mm Body, 16 Lead, 0.65mm Pitch; RoHS: Y; PinCount: 16; DigiKeyPartNumber: LM3495MTC-ND; Code_JEDEC: MO-153-AB; ComponentLink1Description: LM3495 Datasheet; ComponentLink1URL: http://www.national.com/ds/LM/LM3495.pdf; ComponentLink2Description: LM3495 Web Page; ComponentLink2URL: http://www.national.com/pf/LM/LM3495.html; ComponentLink3Description: MTC16 Package Page; ComponentLink3URL: http://www.national.com/packaging/folders/mtc16.html
footprint MTC16_N (TSOP, 16-Leads, Body 5x4.4mm, Pitch 0.65mm, IPC Medium Density)
footprint MTC16_L (TSOP, 16-Leads, Body 5x4.4mm, Pitch 0.65mm, IPC High Density)
footprint MTC16_M (TSOP, 16-Leads, Body 5x4.4mm, Pitch 0.65mm, IPC Low Density)
pins: 1 BOOST (power), 2 HG (power), 3 SW/CSH (in), 4 CSL (in), 5 ILIM (in), 6 ~{FPWM}, 7 SNS, 8 FREQ/SYNC (in), 9 TRACK (in), 10 FB (in), 11 COMP/~{SD}, 12 SGND (power), 13 VIN (power), 14 VLIN5 (power), 15 LG (out), 16 PGND (power)

## LM3500TL-16
designator U?
Synchronous Step-up DC/DC Converter for White LED Applications; PartNumber: LM3500TL-16; Manufacturer: National Semiconductor; CompType: Switcher; PackageTopMarking: XVS*I 18; Published: 4-Dec-2008; DatasheetVersion: Feb-2005; PackageVersion: revC, Jan-2004; PackageReference: TLA08SSA; Publisher: Altium Limited; PackageDescription: Thin Micro SMD, 8 Bump (Large), 0.5mm Pitch; RoHS: Y; PinCount: 8; DigiKeyPartNumber: LM3500TL-16-ND; Code_JEDEC: MO-211-DD; ComponentLink1Description: LM3500 Datasheet; ComponentLink1URL: http://www.national.com/ds/LM/LM3500.pdf; ComponentLink2Description: LM3500 Web Page; ComponentLink2URL: http://www.national.com/pf/LM/LM3500.html; ComponentLink3Description: TLA08SSA Package Drawing; ComponentLink3URL: http://www.national.com/packaging/folders/tla08ssa.html
footprint TLA08SSA (Micro SMD, 8-Leads, Body 1.92x1.92mm, Pitch 0.5mm, NSC Recommended)
pins: A1 AGND (power), A2 ~{SHDN} (in), A3 NC, B1 VIN (power), B3 FB (in), C1 VOUT (out), C2 VSW, C3 GND (power)

## LM3500TL-21
designator U?
Synchronous Step-up DC/DC Converter for White LED Applications; PartNumber: LM3500TL-21; Manufacturer: National Semiconductor; CompType: Switcher; PackageTopMarking: XVS*I 23; Published: 4-Dec-2008; DatasheetVersion: Feb-2005; PackageVersion: revC, Jan-2004; PackageReference: TLA08SSA; Publisher: Altium Limited; PackageDescription: Thin Micro SMD, 8 Bump (Large), 0.5mm Pitch; RoHS: Y; PinCount: 8; DigiKeyPartNumber: LM3500TL-21CT-ND; Code_JEDEC: MO-211-DD; ComponentLink1Description: LM3500 Datasheet; ComponentLink1URL: http://www.national.com/ds/LM/LM3500.pdf; ComponentLink2Description: LM3500 Web Page; ComponentLink2URL: http://www.national.com/pf/LM/LM3500.html; ComponentLink3Description: TLA08SSA Package Drawing; ComponentLink3URL: http://www.national.com/packaging/folders/tla08ssa.html
footprint TLA08SSA (Micro SMD, 8-Leads, Body 1.92x1.92mm, Pitch 0.5mm, NSC Recommended)
pins: A1 AGND (power), A2 ~{SHDN} (in), A3 NC, B1 VIN (power), B3 FB (in), C1 VOUT (out), C2 VSW, C3 GND (power)

## LM3501TL-16
designator U?
Synchronous Step-up DC/DC Converter for White LED Applications; PartNumber: LM3501TL-16; Manufacturer: National Semiconductor; CompType: Switcher; PackageTopMarking: XVS*I 19; Published: 4-Dec-2008; DatasheetVersion: May-2005; PackageVersion: revC, Jan-2004; PackageReference: TLA08SSA; Publisher: Altium Limited; PackageDescription: Thin Micro SMD, 8 Bump (Large), 0.5mm Pitch; RoHS: O; PinCount: 8; DigiKeyPartNumber: LM3501TL-16EV-ND; Code_JEDEC: MO-211-DD; ComponentLink1Description: LM3501 Datasheet; ComponentLink1URL: http://www.national.com/ds/LM/LM3501.pdf; ComponentLink2Description: LM3501 Web Page; ComponentLink2URL: http://www.national.com/pf/LM/LM3501.html; ComponentLink3Description: TLA08SSA Package Drawing; ComponentLink3URL: http://www.national.com/packaging/folders/tla08ssa.html
footprint TLA08SSA (Micro SMD, 8-Leads, Body 1.92x1.92mm, Pitch 0.5mm, NSC Recommended)
pins: A1 AGND (power), A2 ~{SHDN} (in), A3 CNTRL (in), B1 VIN (power), B3 FB (in), C1 VOUT (out), C2 VSW, C3 GND (power)

## LM3501TL-21
designator U?
Synchronous Step-up DC/DC Converter for White LED Applications; PartNumber: LM3501TL-21; Manufacturer: National Semiconductor; CompType: Switcher; PackageTopMarking: XVS*I 30; Published: 4-Dec-2008; DatasheetVersion: May-2005; PackageVersion: revC, Jan-2004; PackageReference: TLA08SSA; Publisher: Altium Limited; PackageDescription: Thin Micro SMD, 8 Bump (Large), 0.5mm Pitch; RoHS: Y; PinCount: 8; DigiKeyPartNumber: LM3501TL-21CT-ND; Code_JEDEC: MO-211-DD; ComponentLink1Description: LM3501 Datasheet; ComponentLink1URL: http://www.national.com/ds/LM/LM3501.pdf; ComponentLink2Description: LM3501 Web Page; ComponentLink2URL: http://www.national.com/pf/LM/LM3501.html; ComponentLink3Description: TLA08SSA Package Drawing; ComponentLink3URL: http://www.national.com/packaging/folders/tla08ssa.html
footprint TLA08SSA (Micro SMD, 8-Leads, Body 1.92x1.92mm, Pitch 0.5mm, NSC Recommended)
pins: A1 AGND (power), A2 ~{SHDN} (in), A3 CNTRL (in), B1 VIN (power), B3 FB (in), C1 VOUT (out), C2 VSW, C3 GND (power)

## LM3502ITL-16
designator U?
Step-Up Converter for White LED Applications; PartNumber: LM3502ITL-16; Manufacturer: National Semiconductor; CompType: Switcher; PackageTopMarking: XYTT*I SANB; Published: 4-Dec-2008; DatasheetVersion: Aug-2006; PackageVersion: revD, Mar-2004; PackageReference: TLP10RDA; Publisher: Altium Limited; PackageDescription: Thin Micro SMD, 10 Bump (Large), Periperal, 0.5mm Pitch; RoHS: Y; PinCount: 10; DigiKeyPartNumber: LM3502ITL-16CT-ND; Code_JEDEC: MO-211-BD; ComponentLink1Description: LM3502 Datasheet; ComponentLink1URL: http://www.national.com/ds/LM/LM3502.pdf; ComponentLink2Description: LM3502 Web Page; ComponentLink2URL: http://www.national.com/pf/LM/LM3502.html; ComponentLink3Description: TLP10RDA Package Drawing; ComponentLink3URL: http://www.national.com/packaging/folders/tlp10rda.html
footprint TLP10RDA (Micro SMD, 10-Leads, Body 2.07x1.9mm, Pitch 0.5mm, NSC Recommended)
pins: A1 CNTRL (in), A2 EN1 (in), A3 EN2, B1 FB (in), B3 VIN (power), C1 VOUT2 (out), C3 AGND (power), D1 VOUT1 (out), D2 SW (power), D3 PGND (power)

## LM3502ITL-25
designator U?
Step-Up Converter for White LED Applications; PartNumber: LM3502ITL-25; Manufacturer: National Semiconductor; CompType: Switcher; PackageTopMarking: XYTT*I SAPB; Published: 4-Dec-2008; DatasheetVersion: Aug-2006; PackageVersion: revD, Mar-2004; PackageReference: TLP10RDA; Publisher: Altium Limited; PackageDescription: Thin Micro SMD, 10 Bump (Large), Periperal, 0.5mm Pitch; RoHS: Y; PinCount: 10; DigiKeyPartNumber: LM3502ITL-25CT-ND; Code_JEDEC: MO-211-BD; ComponentLink1Description: LM3502 Datasheet; ComponentLink1URL: http://www.national.com/ds/LM/LM3502.pdf; ComponentLink2Description: LM3502 Web Page; ComponentLink2URL: http://www.national.com/pf/LM/LM3502.html; ComponentLink3Description: TLP10RDA Package Drawing; ComponentLink3URL: http://www.national.com/packaging/folders/tlp10rda.html
footprint TLP10RDA (Micro SMD, 10-Leads, Body 2.07x1.9mm, Pitch 0.5mm, NSC Recommended)
pins: A1 CNTRL (in), A2 EN1 (in), A3 EN2, B1 FB (in), B3 VIN (power), C1 VOUT2 (out), C3 AGND (power), D1 VOUT1 (out), D2 SW (power), D3 PGND (power)

## LM3502ITL-35
designator U?
Step-Up Converter for White LED Applications; PartNumber: LM3502ITL-35; Manufacturer: National Semiconductor; CompType: Switcher; PackageTopMarking: XYTT*I SARB; Published: 4-Dec-2008; DatasheetVersion: Aug-2006; PackageVersion: revD, Mar-2004; PackageReference: TLP10RDA; Publisher: Altium Limited; PackageDescription: Thin Micro SMD, 10 Bump (Large), Periperal, 0.5mm Pitch; RoHS: Y; PinCount: 10; DigiKeyPartNumber: LM3502ITL-35-ND; Code_JEDEC: MO-211-BD; ComponentLink1Description: LM3502 Datasheet; ComponentLink1URL: http://www.national.com/ds/LM/LM3502.pdf; ComponentLink2Description: LM3502 Web Page; ComponentLink2URL: http://www.national.com/pf/LM/LM3502.html; ComponentLink3Description: TLP10RDA Package Drawing; ComponentLink3URL: http://www.national.com/packaging/folders/tlp10rda.html
footprint TLP10RDA (Micro SMD, 10-Leads, Body 2.07x1.9mm, Pitch 0.5mm, NSC Recommended)
pins: A1 CNTRL (in), A2 EN1 (in), A3 EN2, B1 FB (in), B3 VIN (power), C1 VOUT2 (out), C3 AGND (power), D1 VOUT1 (out), D2 SW (power), D3 PGND (power)

## LM3502ITL-44
designator U?
Step-Up Converter for White LED Applications; PartNumber: LM3502ITL-44; Manufacturer: National Semiconductor; CompType: Switcher; PackageTopMarking: XYTT*I SDLB; Published: 4-Dec-2008; DatasheetVersion: Aug-2006; PackageVersion: revD, Mar-2004; PackageReference: TLP10RDA; Publisher: Altium Limited; PackageDescription: Thin Micro SMD, 10 Bump (Large), Periperal, 0.5mm Pitch; RoHS: Y; PinCount: 10; DigiKeyPartNumber: LM3502ITL-44EV-ND; Code_JEDEC: MO-211-BD; ComponentLink1Description: LM3502 Datasheet; ComponentLink1URL: http://www.national.com/ds/LM/LM3502.pdf; ComponentLink2Description: LM3502 Web Page; ComponentLink2URL: http://www.national.com/pf/LM/LM3502.html; ComponentLink3Description: TLP10RDA Package Drawing; ComponentLink3URL: http://www.national.com/packaging/folders/tlp10rda.html
footprint TLP10RDA (Micro SMD, 10-Leads, Body 2.07x1.9mm, Pitch 0.5mm, NSC Recommended)
pins: A1 CNTRL (in), A2 EN1 (in), A3 EN2, B1 FB (in), B3 VIN (power), C1 VOUT2 (out), C3 AGND (power), D1 VOUT1 (out), D2 SW (power), D3 PGND (power)

## LM3502SQ-16
designator U?
Step-Up Converter for White LED Applications; PartNumber: LM3502SQ-16; Manufacturer: National Semiconductor; CompType: Switcher; PackageTopMarking: NS*UZXYTT*L00048B; Published: 4-Dec-2008; DatasheetVersion: Aug-2006; PackageVersion: revA, Oct-2003; PackageReference: SQA16A; Publisher: Altium Limited; PackageDescription: LLP, Plastic, Quad, 4 x 4 x 0.8mm Body, 16 Lead, 0.5mm Pitch, No Pullback; RoHS: Y; PinCount: 16; DigiKeyPartNumber: LM3502SQ-16CT-ND; ComponentLink1Description: LM3502 Datasheet; ComponentLink1URL: http://www.national.com/ds/LM/LM3502.pdf; ComponentLink2Description: LM3502 Web Page; ComponentLink2URL: http://www.national.com/pf/LM/LM3502.html; ComponentLink3Description: SQA16A Package Drawing; ComponentLink3URL: http://www.national.com/packaging/folders/sqa16a.html
footprint SQA16A (QFN, 16-Leads, Body 4x4mm, Pitch 0.5mm, NSC Recommended)
pins: 1 NC, 2 SW (power), 3 SW (power), 4 VOUT1 (out), 5 NC, 6 VOUT2 (out), 7 FB (in), 8 NC, 9 CNTRL (in), 10 EN1 (in), 11 NC, 12 EN2, 13 VIN (power), 14 AGND (power), 15 PGND (power), 16 PGND (power), 17 DAP (power)

## LM3502SQ-25
designator U?
Step-Up Converter for White LED Applications; PartNumber: LM3502SQ-25; Manufacturer: National Semiconductor; CompType: Switcher; PackageTopMarking: NS*UZXYTT*L00049B; Published: 4-Dec-2008; DatasheetVersion: Aug-2006; PackageVersion: revA, Oct-2003; PackageReference: SQA16A; Publisher: Altium Limited; PackageDescription: LLP, Plastic, Quad, 4 x 4 x 0.8mm Body, 16 Lead, 0.5mm Pitch, No Pullback; RoHS: Y; PinCount: 16; DigiKeyPartNumber: LM3502SQ-25CT-ND; ComponentLink1Description: LM3502 Datasheet; ComponentLink1URL: http://www.national.com/ds/LM/LM3502.pdf; ComponentLink2Description: LM3502 Web Page; ComponentLink2URL: http://www.national.com/pf/LM/LM3502.html; ComponentLink3Description: SQA16A Package Drawing; ComponentLink3URL: http://www.national.com/packaging/folders/sqa16a.html
footprint SQA16A (QFN, 16-Leads, Body 4x4mm, Pitch 0.5mm, NSC Recommended)
pins: 1 NC, 2 SW (power), 3 SW (power), 4 VOUT1 (out), 5 NC, 6 VOUT2 (out), 7 FB (in), 8 NC, 9 CNTRL (in), 10 EN1 (in), 11 NC, 12 EN2, 13 VIN (power), 14 AGND (power), 15 PGND (power), 16 PGND (power), 17 DAP (power)

## LM3502SQ-35
designator U?
Step-Up Converter for White LED Applications; PartNumber: LM3502SQ-35; Manufacturer: National Semiconductor; CompType: Switcher; PackageTopMarking: NS*UZXYTT*L00044B; Published: 4-Dec-2008; DatasheetVersion: Aug-2006; PackageVersion: revA, Oct-2003; PackageReference: SQA16A; Publisher: Altium Limited; PackageDescription: LLP, Plastic, Quad, 4 x 4 x 0.8mm Body, 16 Lead, 0.5mm Pitch, No Pullback; RoHS: Y; PinCount: 16; DigiKeyPartNumber: LM3502SQ-35CT-ND; ComponentLink1Description: LM3502 Datasheet; ComponentLink1URL: http://www.national.com/ds/LM/LM3502.pdf; ComponentLink2Description: LM3502 Web Page; ComponentLink2URL: http://www.national.com/pf/LM/LM3502.html; ComponentLink3Description: SQA16A Package Drawing; ComponentLink3URL: http://www.national.com/packaging/folders/sqa16a.html
footprint SQA16A (QFN, 16-Leads, Body 4x4mm, Pitch 0.5mm, NSC Recommended)
pins: 1 NC, 2 SW (power), 3 SW (power), 4 VOUT1 (out), 5 NC, 6 VOUT2 (out), 7 FB (in), 8 NC, 9 CNTRL (in), 10 EN1 (in), 11 NC, 12 EN2, 13 VIN (power), 14 AGND (power), 15 PGND (power), 16 PGND (power), 17 DAP (power)

## LM3502SQ-44
designator U?
Step-Up Converter for White LED Applications; PartNumber: LM3502SQ-44; Manufacturer: National Semiconductor; CompType: Switcher; PackageTopMarking: NS*UZXYTT*L00050B; Published: 4-Dec-2008; DatasheetVersion: Aug-2006; PackageVersion: revA, Oct-2003; PackageReference: SQA16A; Publisher: Altium Limited; PackageDescription: LLP, Plastic, Quad, 4 x 4 x 0.8mm Body, 16 Lead, 0.5mm Pitch, No Pullback; RoHS: Y; PinCount: 16; DigiKeyPartNumber: LM3502SQ-44CT-ND; ComponentLink1Description: LM3502 Datasheet; ComponentLink1URL: http://www.national.com/ds/LM/LM3502.pdf; ComponentLink2Description: LM3502 Web Page; ComponentLink2URL: http://www.national.com/pf/LM/LM3502.html; ComponentLink3Description: SQA16A Package Drawing; ComponentLink3URL: http://www.national.com/packaging/folders/sqa16a.html
footprint SQA16A (QFN, 16-Leads, Body 4x4mm, Pitch 0.5mm, NSC Recommended)
pins: 1 NC, 2 SW (power), 3 SW (power), 4 VOUT1 (out), 5 NC, 6 VOUT2 (out), 7 FB (in), 8 NC, 9 CNTRL (in), 10 EN1 (in), 11 NC, 12 EN2, 13 VIN (power), 14 AGND (power), 15 PGND (power), 16 PGND (power), 17 DAP (power)

## LM3503ITL-16
designator U?
Dual-Display Constant Current LED Driver with Analog Brightness Control; PartNumber: LM3503ITL-16; Manufacturer: National Semiconductor; CompType: Switcher; PackageTopMarking: XYTT*I SBHB; Published: 4-Dec-2008; DatasheetVersion: Aug-2006; PackageVersion: revD, Mar-2004; PackageReference: TLP10RDA; Publisher: Altium Limited; PackageDescription: Thin Micro SMD, 10 Bump (Large), Periperal, 0.5mm Pitch; RoHS: Y; PinCount: 10; DigiKeyPartNumber: LM3503ITL-16CT-ND; Code_JEDEC: MO-211-BD; ComponentLink1Description: LM3503 Datasheet; ComponentLink1URL: http://www.national.com/ds/LM/LM3503.pdf; ComponentLink2Description: LM3503 Web Page; ComponentLink2URL: http://www.national.com/pf/LM/LM3503.html; ComponentLink3Description: TLP10RDA Package Drawing; ComponentLink3URL: http://www.national.com/packaging/folders/tlp10rda.html
footprint TLP10RDA (Micro SMD, 10-Leads, Body 2.07x1.9mm, Pitch 0.5mm, NSC Recommended)
pins: A1 CNTRL (in), A2 EN1 (in), A3 EN2, B1 FB (in), B3 VIN (power), C1 VOUT2 (out), C3 AGND (power), D1 VOUT1 (out), D2 SW (power), D3 PGND (power)

## LM3503ITL-25
designator U?
Dual-Display Constant Current LED Driver with Analog Brightness Control; PartNumber: LM3503ITL-25; Manufacturer: National Semiconductor; CompType: Switcher; PackageTopMarking: XYTT*I SBJB; Published: 4-Dec-2008; DatasheetVersion: Aug-2006; PackageVersion: revD, Mar-2004; PackageReference: TLP10RDA; Publisher: Altium Limited; PackageDescription: Thin Micro SMD, 10 Bump (Large), Periperal, 0.5mm Pitch; RoHS: Y; PinCount: 10; DigiKeyPartNumber: LM3503ITL-25EV-ND; Code_JEDEC: MO-211-BD; ComponentLink1Description: LM3503 Datasheet; ComponentLink1URL: http://www.national.com/ds/LM/LM3503.pdf; ComponentLink2Description: LM3503 Web Page; ComponentLink2URL: http://www.national.com/pf/LM/LM3503.html; ComponentLink3Description: TLP10RDA Package Drawing; ComponentLink3URL: http://www.national.com/packaging/folders/tlp10rda.html
footprint TLP10RDA (Micro SMD, 10-Leads, Body 2.07x1.9mm, Pitch 0.5mm, NSC Recommended)
pins: A1 CNTRL (in), A2 EN1 (in), A3 EN2, B1 FB (in), B3 VIN (power), C1 VOUT2 (out), C3 AGND (power), D1 VOUT1 (out), D2 SW (power), D3 PGND (power)

## LM3503ITL-35
designator U?
Dual-Display Constant Current LED Driver with Analog Brightness Control; PartNumber: LM3503ITL-35; Manufacturer: National Semiconductor; CompType: Switcher; PackageTopMarking: XYTT*I SBKB; Published: 4-Dec-2008; DatasheetVersion: Aug-2006; PackageVersion: revD, Mar-2004; PackageReference: TLP10RDA; Publisher: Altium Limited; PackageDescription: Thin Micro SMD, 10 Bump (Large), Periperal, 0.5mm Pitch; RoHS: Y; PinCount: 10; DigiKeyPartNumber: LM3503ITL-35CT-ND; Code_JEDEC: MO-211-BD; ComponentLink1Description: LM3503 Datasheet; ComponentLink1URL: http://www.national.com/ds/LM/LM3503.pdf; ComponentLink2Description: LM3503 Web Page; ComponentLink2URL: http://www.national.com/pf/LM/LM3503.html; ComponentLink3Description: TLP10RDA Package Drawing; ComponentLink3URL: http://www.national.com/packaging/folders/tlp10rda.html
footprint TLP10RDA (Micro SMD, 10-Leads, Body 2.07x1.9mm, Pitch 0.5mm, NSC Recommended)
pins: A1 CNTRL (in), A2 EN1 (in), A3 EN2, B1 FB (in), B3 VIN (power), C1 VOUT2 (out), C3 AGND (power), D1 VOUT1 (out), D2 SW (power), D3 PGND (power)

## LM3503ITL-44
designator U?
Dual-Display Constant Current LED Driver with Analog Brightness Control; PartNumber: LM3503ITL-44; Manufacturer: National Semiconductor; CompType: Switcher; PackageTopMarking: XYTT*I SDNB; Published: 4-Dec-2008; DatasheetVersion: Aug-2006; PackageVersion: revD, Mar-2004; PackageReference: TLP10RDA; Publisher: Altium Limited; PackageDescription: Thin Micro SMD, 10 Bump (Large), Periperal, 0.5mm Pitch; RoHS: Y; PinCount: 10; DigiKeyPartNumber: LM3503ITL-44CT-ND; Code_JEDEC: MO-211-BD; ComponentLink1Description: LM3503 Datasheet; ComponentLink1URL: http://www.national.com/ds/LM/LM3503.pdf; ComponentLink2Description: LM3503 Web Page; ComponentLink2URL: http://www.national.com/pf/LM/LM3503.html; ComponentLink3Description: TLP10RDA Package Drawing; ComponentLink3URL: http://www.national.com/packaging/folders/tlp10rda.html
footprint TLP10RDA (Micro SMD, 10-Leads, Body 2.07x1.9mm, Pitch 0.5mm, NSC Recommended)
pins: A1 CNTRL (in), A2 EN1 (in), A3 EN2, B1 FB (in), B3 VIN (power), C1 VOUT2 (out), C3 AGND (power), D1 VOUT1 (out), D2 SW (power), D3 PGND (power)

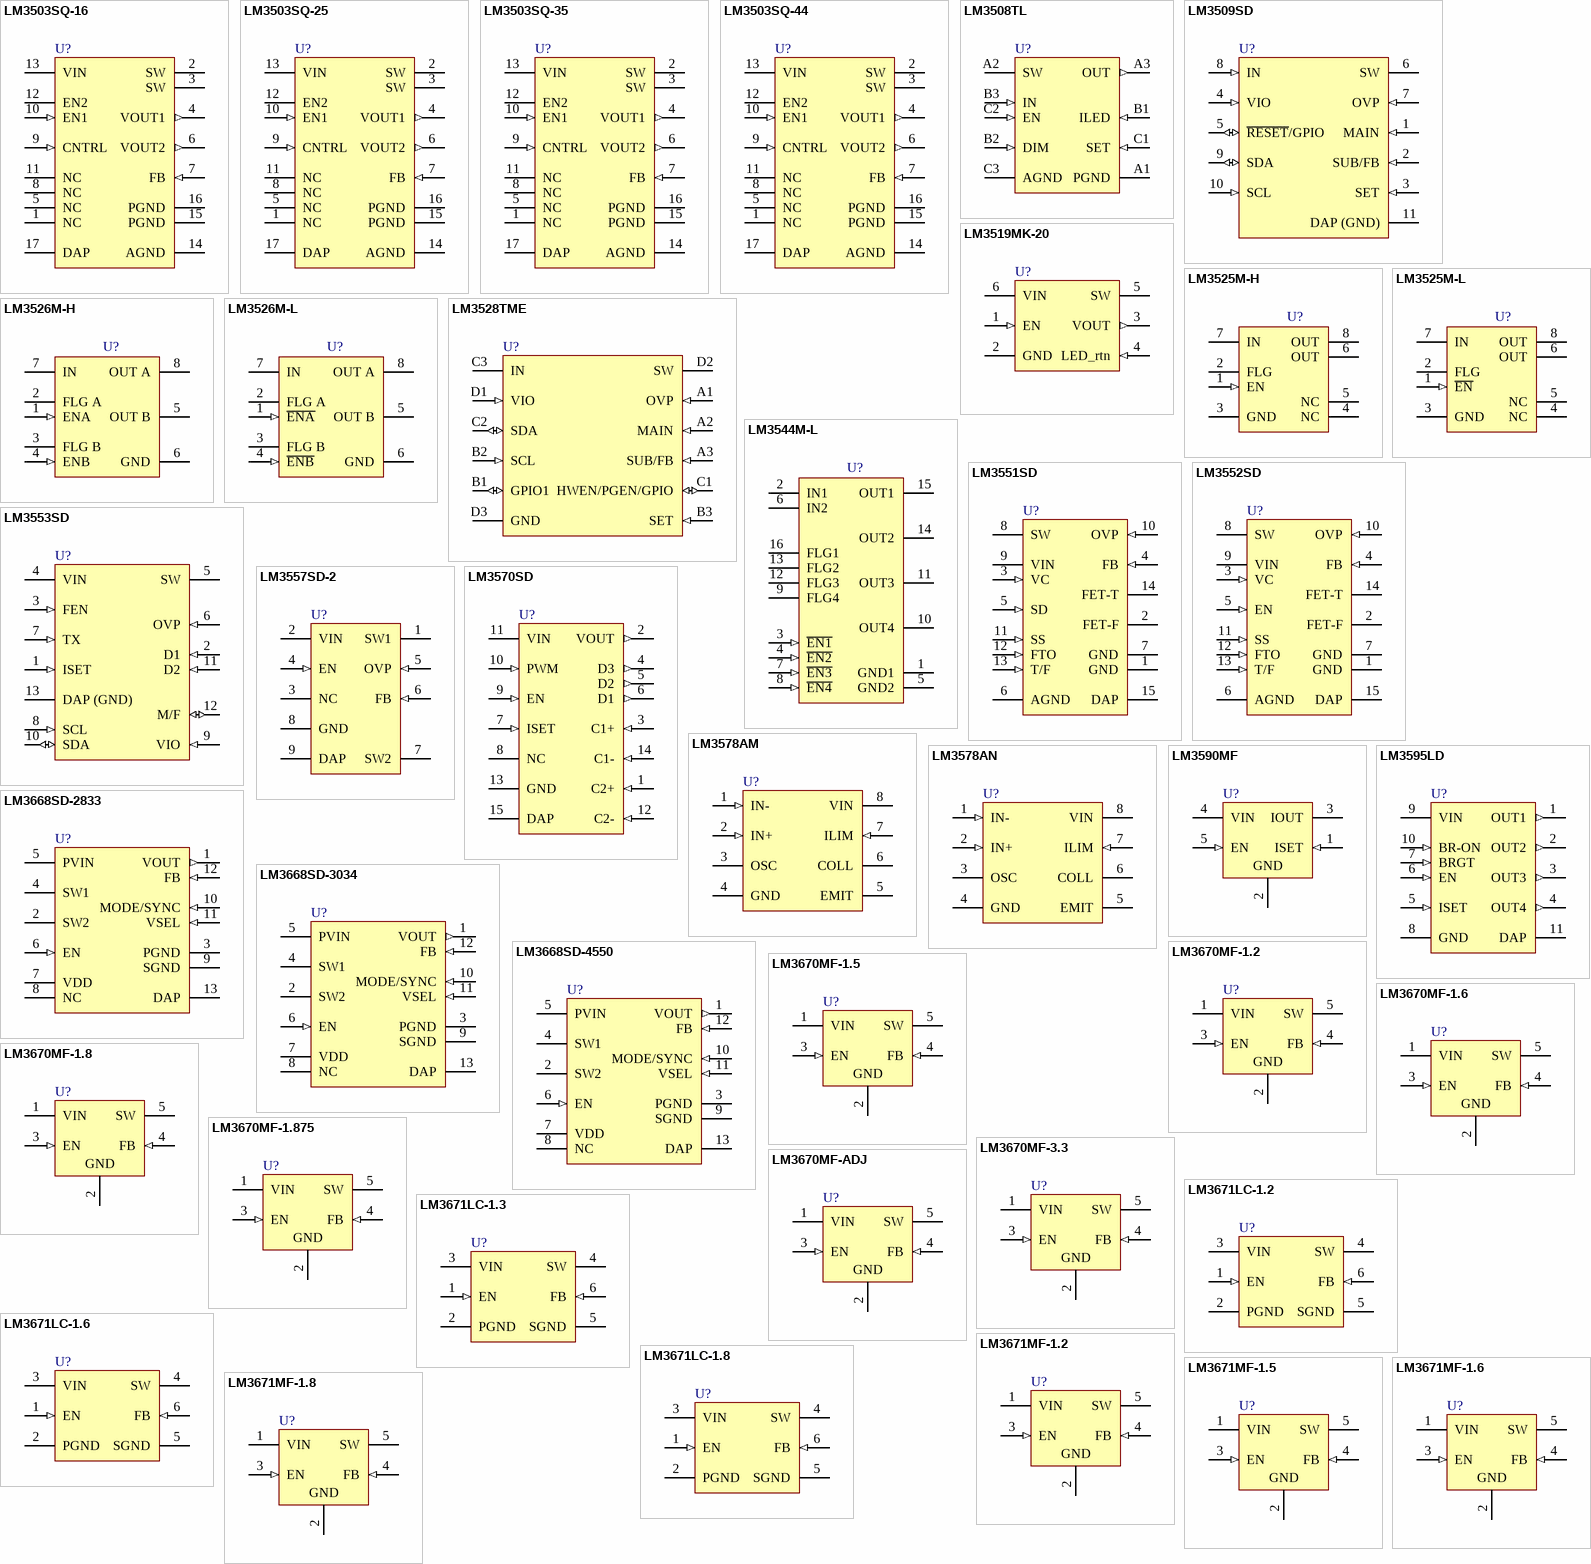
[diagram p17: symbols LM3503SQ-16 to LM3671MF-1.8]